# EAGLE library part FT232HQ (library EagleLibrary)
FTDI chip: USB to UART/FIFO
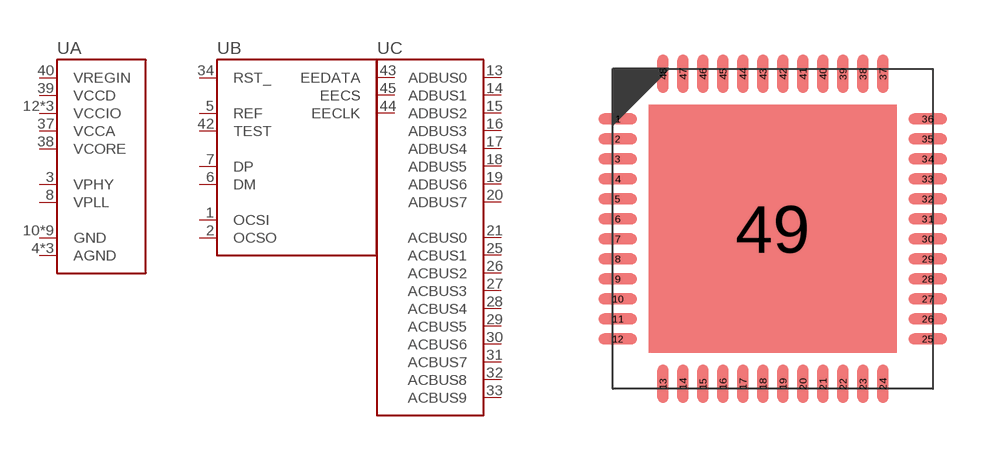
[diagram p19: symbol with the pads of FT232HQ; footprint FT232HQ]

Designator prefix U; gates A=FT232HQ-A B=FT232HQ-B C=FT232HQ-C

## FT232HQ (MFG: FTDI; PN: FT232HQ)  [FT232HQ]
1  B:OCSI
2  B:OCSO
3  A:VPHY
4  A:AGND
5  B:REF
6  B:DM
7  B:DP
8  A:VPLL
9  A:AGND
10  A:GND
11  A:GND
12  A:VCCIO
13  C:ADBUS0
14  C:ADBUS1
15  C:ADBUS2
16  C:ADBUS3
17  C:ADBUS4
18  C:ADBUS5
19  C:ADBUS6
20  C:ADBUS7
21  C:ACBUS0
22  A:GND
23  A:GND
24  A:VCCIO
25  C:ACBUS1
26  C:ACBUS2
27  C:ACBUS3
28  C:ACBUS4
29  C:ACBUS5
30  C:ACBUS6
31  C:ACBUS7
32  C:ACBUS8
33  C:ACBUS9
34  B:RST_
35  A:GND
36  A:GND
37  A:VCCA
38  A:VCORE
39  A:VCCD
40  A:VREGIN
41  A:AGND
42  B:TEST
43  B:EEDATA
44  B:EECLK
45  B:EECS
46  A:VCCIO
47  A:GND
48  A:GND
49  A:GND

## Footprint FT232HQ (pad centres in mm)
48-QFN, 0.50 mm pitch, 8.00 X 8.00 X 0.90 mm body, 6.20 X 6.20 mm thermal pad 48-pin QFN package with 0.50 mm pitch with body size 8.00 X 8.00 X 0.90 mm and thermal pad size 6.20 X 6.20 mm
smd 0.961 x 0.27: 1 -3.876,2.75; 2 -3.876,2.25; 3 -3.876,1.75; 4 -3.876,1.25; 5 -3.876,0.75; 6 -3.876,0.25; 7 -3.876,-0.25; 8 -3.876,-0.75; 9 -3.876,-1.25; 10 -3.876,-1.75; 11 -3.876,-2.25; 12 -3.876,-2.75; 25 3.876,-2.75; 26 3.876,-2.25; 27 3.876,-1.75; 28 3.876,-1.25; 29 3.876,-0.75; 30 3.876,-0.25; 31 3.876,0.25; 32 3.876,0.75; 33 3.876,1.25; 34 3.876,1.75; 35 3.876,2.25; 36 3.876,2.75
smd 0.27 x 0.961: 13 -2.75,-3.876; 14 -2.25,-3.876; 15 -1.75,-3.876; 16 -1.25,-3.876; 17 -0.75,-3.876; 18 -0.25,-3.876; 19 0.25,-3.876; 20 0.75,-3.876; 21 1.25,-3.876; 22 1.75,-3.876; 23 2.25,-3.876; 24 2.75,-3.876; 37 2.75,3.876; 38 2.25,3.876; 39 1.75,3.876; 40 1.25,3.876; 41 0.75,3.876; 42 0.25,3.876; 43 -0.25,3.876; 44 -0.75,3.876; 45 -1.25,3.876; 46 -1.75,3.876; 47 -2.25,3.876; 48 -2.75,3.876
smd 6.2 x 6.2: 49 0,0